# Altium schematic symbol library Custom1.SchLib: 476 symbols (part 8 of 16)
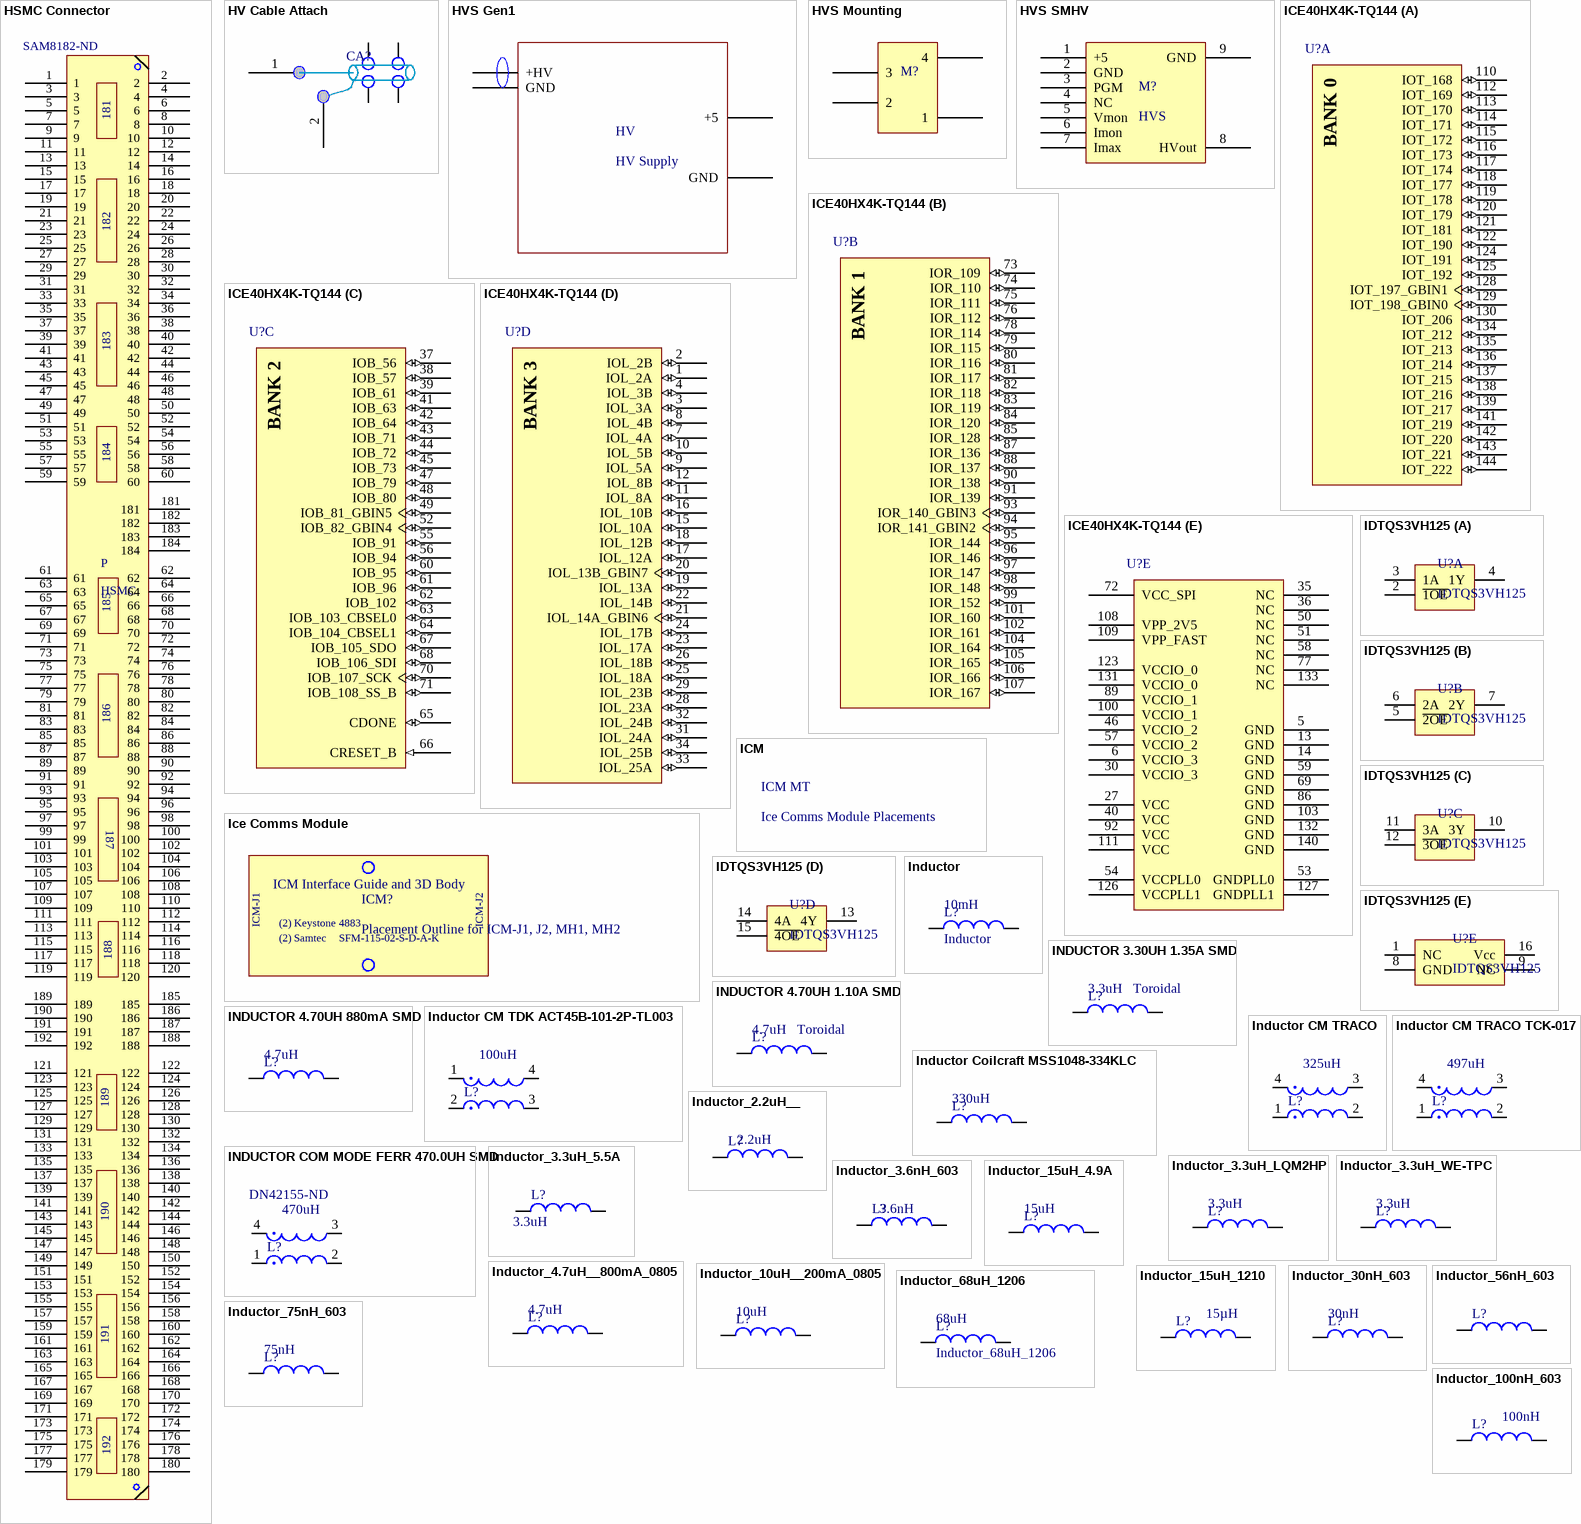
[diagram p32: symbols HSMC Connector to Inductor_100nH_603]

## Inductor CM TDK ACT45B-101-2P-TL003
designator L?  value 100uH  (hidden comment: Inductor CM TDK ACT45B-101-2P-TL003)
Manufacturer: TDK Corporation; Filter Type: Data, Signal Line; Number of Lines: 2; Inductance: 100µH; Current: 150mA; DC Resistance (DCR): 2 Ohm Max; Impedance: 5.8 kOhm; Supplier 1: Digi-Key; Manufacturer Part Number: ACT45B-101-2P-TL003; RoHS: RoHS Compliant; Category: Filters; Stock 1: 15311; Pricing 1: 1=2.25, 10=2.1, 50=1.71, 100=1.56, 500=1.32, 1000=1.23 (USD); Packaging: Cut Tape (CT); Mounting Type: Surface Mount; Size / Dimension: 0.177" L x 0.126" W (4.50mm x 3.20mm); Height (Max): 0.118" (3.00mm); Package / Case: Horizontal, 4 PC Pad; Operating Temperature: -40°C ~ 150°C; ComponentLink1URL: http://product.tdk.com/en/catalog/datasheets/e9711_act.pdf; ComponentLink1Description: http://product.tdk.com/en/catalog/datasheets/e9711_act.pdf; Supplier Part Number 1: 445-3959-1-ND
simulation model INDUCTOR (Inductor)
signal-integrity model Inductor
footprint PSI_IND_SMD_4P_4.6SP_4.5X3.2B_5.9W__V1
pins: 1, 2, 3, 4

## Inductor CM TRACO
designator L?  value 325uH  (hidden comment: Inductor CM TRACO)
TCK-050
simulation model INDUCTOR (Inductor)
signal-integrity model Inductor
footprint CM Choke TCK-050 (CM Choke TRACO TCK-050)
pins: 1, 2, 3, 4

## Inductor CM TRACO TCK-017
designator L?  value 497uH  (hidden comment: Inductor CM TRACO TCK-017)
TCK-050; Manufacturer: TRACO Power; Inductance: 497 uH; Maximum DC Resistance: 80 mOhms; Shielding: Unshielded; Tolerance: 25 %; Type: Common Mode Choke; Test Frequency: 100 kHz; Supplier 1: Mouser; Manufacturer Part Number: TCK-017; RoHS: RoHS Compliant; Category: Common Mode Filters / Chokes; Stock 1: 0; Pricing 1: 1=6.94, 10=6.24, 25=5.89, 50=5.55, 100=5.18, 250=4.98, 500=4.82, 1000=4.67, 2500=4.50 (AUD); Height: 8.8 mm; Length: 11 mm; Maximum DC Current: -; Packaging: Bulk; Product: Common Mode Chokes; Self Resonant Frequency: -; Termination Style: Through Hole; Width: 11 mm; Brand: TRACO Power; RoHS - Mouser: Y; Minimum Order Quantity: 1; Reeling: False; ComponentLink1URL: http://www.mouser.com/ds/2/687/ten8wi-application-536504.pdf; ComponentLink1Description: http://www.mouser.com/ds/2/687/ten8wi-application-536504.pdf; Supplier Part Number 1: 495-TCK-017
simulation model INDUCTOR (Inductor)
signal-integrity model Inductor
footprint CM Choke TCK-050 (CM Choke TRACO TCK-050)
pins: 1, 2, 3, 4

## Inductor Coilcraft MSS1048-334KLC
designator L?, comment value 330uH  (hidden comment: INDUCTOR 330UH  SMD)
Inductor Coilcraft MSS1048-334KLC; Manufacturer Part Number: MSS1048T-334KLB; Core Material: Ferrite; Maximum DC Current: 820 mA; Maximum DC Resistance: 749.5 mOhms; Self Resonant Frequency: 3 MHz; Shielding: Shielded; Tolerance: 10 %; Case Height: 5.1 mm; Case Length: 10.5 mm; Case Width: 10.3 mm; Test Frequency: 100 kHz; Supplier 1: Mouser; Manufacturer: Coilcraft; RoHS: RoHS Compliant; Category: Fixed Inductors; Stock 1: 172; Pricing 1: 1=2.24, 10=2.00, 15=2.00, 50=1.74, 100=1.51, 200=1.34, 500=1.22, 1000=1.13, 2000=1.09 (AUD); Inductance: 330 uH; Operating Temperature Range: - 40 C to + 125 C; Packaging: Reel; Product: Power Inductors; Series: MSS1048T; Termination Style: SMD/SMT; Brand: Coilcraft; Standard Pack Qty: 15; RoHS - Mouser: Y; Minimum Order Quantity: 1; Reeling: True; ComponentLink1URL: http://www.mouser.com/ds/2/597/mss1048t-253250.pdf; ComponentLink1Description: http://www.mouser.com/ds/2/597/mss1048t-253250.pdf; Supplier Part Number 1: 994-MSS1048T-334KLB
simulation model INDUCTOR (Inductor)
signal-integrity model Inductor
footprint IND_SMD_2P_10.2x10.2B_4.8H__V1
pins: 1, 2

## INDUCTOR COM MODE FERR 470.0UH SMD
designator L?, comment value 470uH  Supplier Part Number 1: DN42155-ND  (hidden comment: CM6350R-474)
Manufacturer: API Delevan Inc; Filter Type: Power Line; Number of Lines: 2; Inductance: 470µH; Current: 1.5A; DC Resistance (DCR): 60 mOhm Max; Supplier 1: Digi-Key; Manufacturer Part Number: CM6350R-474; RoHS: RoHS Compliant; Category: Filters; Stock 1: 1684; Pricing 1: 1=7.7, 10=6.93, 25=6.16, 50=5.236, 100=4.928, 500=4.62, 1000=4.312, 2500=4.0964 (USD); Packaging: Bulk; Impedance: -; Mounting Type: Surface Mount; Size / Dimension: 0.360" L x 0.360" W (9.14mm x 9.14mm); Height (Max): 0.210" (5.33mm); Package / Case: Horizontal, 4 PC Pad; Operating Temperature: -55°C ~ 105°C; ComponentLink1URL: http://www.delevan.com/seriesPDFs/CM6350.pdf; ComponentLink1Description: http://www.delevan.com/seriesPDFs/CM6350.pdf
simulation model INDUCTOR (Inductor)
signal-integrity model Inductor
footprint CM6350
pins: 1, 2, 3, 4

## Inductor_2.2uH__
designator L?  value 2.2uH  (hidden comment: Inductor_2.2uH__)
Inductor
footprint 0402 (Chip Capacitor; Body 1.0 x 0.5 mm (LxW typ))
footprint INDC1608L (Chip Inductor, Body 1.6x0.8mm, IPC High Density)
footprint 2029 (Chip Inductor, Body 2.0x1.2mm, IPC High Density)
footprint 0603 (Chip Inductor, Body 0.6x0.3mm, IPC High Density)
footprint INDC3216 (Chip Inductor, Body 3.2x1.6mm, IPC High Density)
footprint INDC4532 (Chip Inductor, Body 4.5x3.2mm, IPC High Density)
simulation model INDUCTOR (Inductor)
signal-integrity model Inductor
footprint 0805 (SMT; Body 2.0 x 1.2 mm (LxW typ))
pins: 1, 2

## Inductor_3.3uH_5.5A
designator L?  Inductance: 3.3uH  (hidden comment: Inductor_3.3uH_5.5A)
3.3µH Shielded Wirewound Inductor 5.5A 38.3mOhm Max Nonstandard; Manufacturer: Bourns; Manufacturer Part Number: SRP4020FA-3R3M; ComponentLink1Description: Datasheet; ComponentLink1URL: https://www.bourns.com/docs/Product-Datasheets/SRP4020FA.pdf; ComponentLink2Description: Supplier Link; ComponentLink2URL: https://www.digikey.com/products/en?keywords=SRP4020FA-3R3MCT-ND; Supplier 1: Digi-Key; Stock 1: 2984; Pricing 1: 1=1.49000, 10=1.38300, 100=0.99990, 500=0.76590, 1000=0.68080 (USD); RoHS: No; Supplier Part Number 1: SRP4020FA-3R3MCT-ND
simulation model INDUCTOR (Inductor)
signal-integrity model Inductor
footprint IND_EATON_SRP
pins: 1, 2

## Inductor_3.3uH_LQM2HP
designator L?  value 3.3uH  (hidden comment: Inductor_3.3uH_LQM2HP)
Inductor; Manufacturer: Murata Electronics North America; Manufacturer Part Number: LQM2HPN3R3MJ0L; Type: Multilayer; Inductance: 3.3µH; Tolerance: ±20%; Current Rating: 1A; Shielding: Shielded; DC Resistance (DCR): 120 mOhm; Frequency - Self Resonant: 30MHz; Frequency - Test: 1MHz; Supplier 1: Digi-Key; Supplier Part Number 1: 490-6701-1-ND; RoHS: RoHS Compliant; Category: Inductors, Coils, Chokes; Stock: 5835; Pricing: 1=0.4, 10=0.36, 25=0.3196, 50=0.2796, 100=0.2597, 250=0.23972, 500=0.22772, 750=0.20775, 1000=0.18377 (USD); Packaging: Cut Tape (CT); Material - Core: -; Current - Saturation: -; Q @ Freq: -; Operating Temperature: -55°C ~ 125°C; Mounting Type: Surface Mount; Package / Case: 1008 (2520 Metric); Size / Dimension: 0.098" L x 0.079" W (2.50mm x 2.00mm); Height - Seated (Max): 0.039" (1.00mm); Supplier Device Package: 1008 (2520 Metric); ComponentLink1URL: http://search.murata.co.jp/Ceramy/image/img/PDF/ENG/L0075S0104LQM2HP_J0.pdf; ComponentLink1Description: http://search.murata.co.jp/Ceramy/image/img/PDF/ENG/L0075S0104LQM2HP_J0.pdf
footprint 0402 (Chip Capacitor; Body 1.0 x 0.5 mm (LxW typ))
footprint INDC1608L (Chip Inductor, Body 1.6x0.8mm, IPC High Density)
footprint 2029 (Chip Inductor, Body 2.0x1.2mm, IPC High Density)
footprint 0603 (Chip Inductor, Body 0.6x0.3mm, IPC High Density)
footprint INDC3216 (Chip Inductor, Body 3.2x1.6mm, IPC High Density)
footprint INDC4532 (Chip Inductor, Body 4.5x3.2mm, IPC High Density)
simulation model INDUCTOR (Inductor)
signal-integrity model Inductor
footprint 0805 (SMT; Body 2.0 x 1.2 mm (LxW typ))
footprint IND_1008 (Footprint not found)
pins: 1, 2

## Inductor_3.3uH_WE-TPC
designator L?  value 3.3uH  (hidden comment: Inductor_3.3uH_WE-TPC)
FIXED IND 3.3UH 2.15A 35 MOHM; Manufacturer: Wurth Electronics Inc; Manufacturer Part Number: 744043003; Type: Wirewound; Material - Core: Ferrite; Inductance: 3.3µH; Tolerance: ±30%; Current - Saturation: 1.8A; Shielding: Shielded; DC Resistance (DCR): 35 mOhm Max; Frequency - Self Resonant: 80MHz; Frequency - Test: 100kHz; Supplier 1: Digi-Key; RoHS: RoHS Compliant; Category: Inductors, Coils, Chokes; Stock 1: 2200; Pricing 1: 1=1.63, 10=1.55, 50=1.4726, 100=1.3563, 250=1.27876 (USD); Packaging: Cut Tape (CT); Current Rating: 2.15A; Q @ Freq: -; Ratings: -; Operating Temperature: -40°C ~ 125°C; Mounting Type: Surface Mount; Package / Case: 1919 (4848 Metric); Size / Dimension: 0.189" L x 0.189" W (4.80mm x 4.80mm); Height - Seated (Max): 0.118" (3.00mm); ComponentLink1URL: http://katalog.we-online.de/pbs/datasheet/744043003.pdf; ComponentLink1Description: http://katalog.we-online.de/pbs/datasheet/744043003.pdf; Supplier Part Number 1: 732-1097-1-ND
simulation model INDUCTOR (Inductor)
signal-integrity model Inductor
footprint IND_WE_TPC (0.189" L x 0.189" W (4.80mm x 4.80mm))
pins: 1, 2

## Inductor_3.6nH_603
designator L?  Inductance: 3.6nH  (hidden comment: Inductor_3.6nH_603)
FIXED IND 3.6NH 700MA 63 MOHM; Manufacturer: Murata; Manufacturer Part Number: LQW18AS3N6G0ZD; Core Material: Non-Magnetic; Tolerance: 2%; Shielding: Unshielded; DC Resistance (DCR): 63mR; Self Resonant Frequency: 5.9GHz; Test Frequency: 250MHz; ComponentLink1Description: Datasheet; ComponentLink1URL: https://search.murata.co.jp/Ceramy/image/img/P02/JELF243A-9139.pdf; ComponentLink2Description: Supplier Link; ComponentLink2URL: https://www.digikey.jp/products/en?keywords=490-15826-1-ND; Supplier 1: Digi-Key; Stock 1: 4762; Pricing 1: 1 = 0.23000, 10 = 0.20700, 100 = 0.14230, 500 = 0.12162, 1000 = 0.09315 (USD); RoHS: No; Mount: Surface Mount; Case/Package: 0603; Case Code (Imperial): 0603; Case Code (Metric): 1608; Min Operating Temperature: -55°C; Max Operating Temperature: 125°C; Composition: Wirewound; Packaging: Cut Tape; Current Rating: 700mA; Ratings: AEC-Q200; Supplier Part Number 1: 490-15826-1-ND
footprint 0402 (Chip Capacitor; Body 1.0 x 0.5 mm (LxW typ))
footprint INDC1608L (Chip Inductor, Body 1.6x0.8mm, IPC High Density)
footprint 2029 (Chip Inductor, Body 2.0x1.2mm, IPC High Density)
footprint 0603 (Chip Inductor, Body 0.6x0.3mm, IPC High Density)
footprint INDC3216 (Chip Inductor, Body 3.2x1.6mm, IPC High Density)
footprint INDC4532 (Chip Inductor, Body 4.5x3.2mm, IPC High Density)
simulation model INDUCTOR (Inductor)
signal-integrity model Inductor
footprint 0805 (SMT; Body 2.0 x 1.2 mm (LxW typ))
footprint IND_0603 (Chip Inductor, Body 1.6x0.8mm, IPC Medium Density)
pins: 1, 2

## Inductor_4.7uH__800mA_0805
designator L?, comment value 4.7uH  (hidden comment: Inductor_4.7uH_800mA)
Inductor; Manufacturer: Murata Electronics North America; Manufacturer Part Number: LQM21PN4R7NGRD; Inductance: 4.7µH; Tolerance: ±30%; Current Rating: 800mA; Shielding: Shielded; DC Resistance (DCR): 288 mOhm Max; Frequency - Self Resonant: 30MHz; Frequency - Test: 1MHz; Supplier 1: Digi-Key; Supplier Part Number 1: 490-7782-1-ND; RoHS: RoHS Compliant; Category: Inductors, Coils, Chokes; Stock: 9703; Pricing: 1=0.36, 10=0.326, 25=0.2896, 50=0.2534, 100=0.2353, 250=0.2172, 500=0.20634, 750=0.18824, 1000=0.16652 (USD); Packaging: Cut Tape (CT); Type: -; Material - Core: -; Current - Saturation: -; Q @ Freq: -; Operating Temperature: -55°C ~ 125°C; Mounting Type: Surface Mount; Package / Case: 0805 (2012 Metric); Size / Dimension: 0.079" L x 0.049" W (2.00mm x 1.25mm); Height - Seated (Max): 0.039" (1.00mm); Supplier Device Package: 0805 (2012 Metric); ComponentLink1URL: http://www.murata.com/products/catalog/pdf/o05e.pdf; ComponentLink1Description: http://www.murata.com/products/catalog/pdf/o05e.pdf
footprint 0402 (Chip Capacitor; Body 1.0 x 0.5 mm (LxW typ))
footprint INDC1608L (Chip Inductor, Body 1.6x0.8mm, IPC High Density)
footprint 2029 (Chip Inductor, Body 2.0x1.2mm, IPC High Density)
footprint 0603 (Chip Inductor, Body 0.6x0.3mm, IPC High Density)
footprint INDC3216 (Chip Inductor, Body 3.2x1.6mm, IPC High Density)
footprint INDC4532 (Chip Inductor, Body 4.5x3.2mm, IPC High Density)
simulation model INDUCTOR (Inductor)
signal-integrity model Inductor
footprint 0805 (SMT; Body 2.0 x 1.2 mm (LxW typ))
pins: 1, 2

## Inductor_10uH__200mA_0805
designator L?, comment value 10uH  (hidden comment: Inductor_10uH_200mA)
Inductor; Manufacturer: TDK Corporation; Manufacturer Part Number: MLZ2012M100WT000; Type: Multilayer; Material - Core: Ferrite; Inductance: 10µH; Tolerance: ±20%; Current Rating: 350mA; Current - Saturation: 200mA; Shielding: Shielded; DC Resistance (DCR): 470 mOhm; Frequency - Self Resonant: 50MHz; Frequency - Test: 2MHz; Supplier 1: Digi-Key; Supplier Part Number 1: 445-6396-1-ND; RoHS: RoHS Compliant; Category: Inductors, Coils, Chokes; Stock: 81938; Pricing: 1=0.14, 10=0.125, 50=0.0976, 100=0.0875, 500=0.075, 1000=0.065 (USD); Packaging: Cut Tape (CT); Q @ Freq: -; Operating Temperature: -55°C ~ 125°C; Mounting Type: Surface Mount; Package / Case: 0805 (2012 Metric); Size / Dimension: 0.079" L x 0.049" W (2.00mm x 1.25mm); Height - Seated (Max): 0.057" (1.45mm); Supplier Device Package: 0805 (2012 Metric); ComponentLink1URL: http://www.tdk.co.jp/tefe02/e533_mlz.pdf; ComponentLink1Description: http://www.tdk.co.jp/tefe02/e533_mlz.pdf
footprint 0402 (Chip Capacitor; Body 1.0 x 0.5 mm (LxW typ))
footprint INDC1608L (Chip Inductor, Body 1.6x0.8mm, IPC High Density)
footprint 2029 (Chip Inductor, Body 2.0x1.2mm, IPC High Density)
footprint 0603 (Chip Inductor, Body 0.6x0.3mm, IPC High Density)
footprint INDC3216 (Chip Inductor, Body 3.2x1.6mm, IPC High Density)
footprint INDC4532 (Chip Inductor, Body 4.5x3.2mm, IPC High Density)
simulation model INDUCTOR (Inductor)
signal-integrity model Inductor
footprint 0805 (SMT; Body 2.0 x 1.2 mm (LxW typ))
pins: 1, 2

## Inductor_15uH_4.9A
designator L?  value 15uH  (hidden comment: Inductor_15uH_4.9A)
Inductor; Manufacturer: Vishay Dale; Manufacturer Part Number: IHLP3232DZER150M11; Inductance: 15µH; Current Rating: 4.9A; Current - Saturation: 3.7A; Tolerance: ±20%; Shielding: Shielded; DC Resistance (DCR): 65.3 mOhm Max; Frequency - Test: 100kHz; Supplier 1: Digi-Key; Supplier Part Number 1: 541-1347-1-ND; RoHS: RoHS Compliant; Category: Inductors, Coils, Chokes; Pricing: 1=1.74, 10=1.41, 100=1.175 (USD); Packaging: Cut Tape (CT); Type: -; Material - Core: -; Q @ Freq: -; Frequency - Self Resonant: -; Operating Temperature: -55°C ~ 125°C; Package / Case: Non Standard; Size / Dimension: 0.340" L x 0.322" W x 0.158" H (8.64mm x 8.18mm x 4.00mm); Mounting Type: Surface Mount; ComponentLink1URL: http://media.digikey.com/PDF/Data%20Sheets/Vishay%20Dale%20PDFs/IHLP-3232DZ-11.pdf; ComponentLink1Description: http://media.digikey.com/PDF/Data%20Sheets/Vishay%20Dale%20PDFs/IHLP-3232DZ-11.pdf; Stock: 480
footprint 0402 (Chip Capacitor; Body 1.0 x 0.5 mm (LxW typ))
footprint INDC1608L (Chip Inductor, Body 1.6x0.8mm, IPC High Density)
footprint 2029 (Chip Inductor, Body 2.0x1.2mm, IPC High Density)
footprint 0603 (Chip Inductor, Body 0.6x0.3mm, IPC High Density)
footprint INDC3216 (Chip Inductor, Body 3.2x1.6mm, IPC High Density)
footprint INDC4532 (Chip Inductor, Body 4.5x3.2mm, IPC High Density)
simulation model INDUCTOR (Inductor)
signal-integrity model Inductor
footprint 0805 (SMT; Body 2.0 x 1.2 mm (LxW typ))
footprint Inductor IHLP-3232DZ
pins: 1, 2

## Inductor_15uH_1210
designator L?  Inductance: 15µH  (hidden comment: Inductor_15uH_1210)
Inductor; Manufacturer: Murata Electronics North America; Manufacturer Part Number: LQH32CN150K53L; Type: Wirewound; Material - Core: Ferrite; Tolerance: ±10%; Current Rating: 300mA; Shielding: Unshielded; DC Resistance (DCR): 754 mOhm Max; Frequency - Self Resonant: 26MHz; Frequency - Test: 1MHz; Supplier 1: Digi-Key; RoHS: RoHS Compliant; Category: Inductors, Coils, Chokes; Stock 1: 13112; Pricing 1: 1=0.35, 10=0.317, 25=0.2816, 50=0.2464, 100=0.2288, 250=0.2112, 500=0.20064, 750=0.18304, 1000=0.16192 (USD); Packaging: Cut Tape (CT); Current - Saturation: -; Q @ Freq: -; Ratings: -; Operating Temperature: -40°C ~ 85°C; Mounting Type: Surface Mount; Package / Case: 1210 (3225 Metric); Size / Dimension: 0.126" L x 0.098" W (3.20mm x 2.50mm); Height - Seated (Max): 0.067" (1.70mm); ComponentLink1URL: http://search.murata.co.jp/Ceramy/image/img/PDF/ENG/L0075S0093LQH32C_53.pdf; ComponentLink1Description: http://search.murata.co.jp/Ceramy/image/img/PDF/ENG/L0075S0093LQH32C_53.pdf; Supplier Part Number 1: 490-4060-1-ND
footprint 0402 (Chip Capacitor; Body 1.0 x 0.5 mm (LxW typ))
footprint INDC1608L (Chip Inductor, Body 1.6x0.8mm, IPC High Density)
footprint 2029 (Chip Inductor, Body 2.0x1.2mm, IPC High Density)
footprint 0603 (Chip Inductor, Body 0.6x0.3mm, IPC High Density)
footprint INDC3216 (Chip Inductor, Body 3.2x1.6mm, IPC High Density)
footprint INDC4532 (Chip Inductor, Body 4.5x3.2mm, IPC High Density)
simulation model INDUCTOR (Inductor)
signal-integrity model Inductor
footprint 0805 (SMT; Body 2.0 x 1.2 mm (LxW typ))
footprint Inductor IHLP-3232DZ
footprint IND_1210 (Chip Inductor, Body 3.2x2.5mm, IPC Medium Density)
pins: 1, 2

## Inductor_30nH_603
designator L?  value 30nH  (hidden comment: Inductor_30nH_603)
30nH Ceramic Q=34; Manufacturer: Murata Electronics North America; Manufacturer Part Number: LQW18AN30NG00D; Type: Wirewound; Material - Core: Air; Tolerance: ±2%; Current Rating: 420mA; Shielding: Unshielded; DC Resistance (DCR): 230 mOhm Max; Q @ Freq: 40 @ 250MHz; Frequency - Self Resonant: 3.3GHz; Frequency - Test: 100MHz; Supplier 1: Digi-Key; Supplier Part Number 1: 490-6882-1-ND; RoHS: RoHS Compliant; Category: Inductors, Coils, Chokes; Stock: 5852; Pricing: 1=0.36, 10=0.324, 25=0.288, 50=0.252, 100=0.234, 250=0.216, 500=0.2052, 750=0.1872, 1000=0.1656 (USD); Packaging: Cut Tape (CT); Inductance: 30nH; Current - Saturation: -; Operating Temperature: -55°C ~ 125°C; Mounting Type: Surface Mount; Package / Case: 0603 (1608 Metric); Size / Dimension: 0.063" L x 0.031" W (1.60mm x 0.80mm); Height - Seated (Max): 0.039" (1.00mm); Supplier Device Package: 0603 (1608 Metric); ComponentLink1URL: http://search.murata.co.jp/Ceramy/image/img/PDF/ENG/L0075S0080LQW18A_00.pdf; ComponentLink1Description: http://search.murata.co.jp/Ceramy/image/img/PDF/ENG/L0075S0080LQW18A_00.pdf
footprint 0402 (Chip Capacitor; Body 1.0 x 0.5 mm (LxW typ))
footprint INDC1608L (Chip Inductor, Body 1.6x0.8mm, IPC High Density)
footprint 2029 (Chip Inductor, Body 2.0x1.2mm, IPC High Density)
footprint 0603 (Chip Inductor, Body 0.6x0.3mm, IPC High Density)
footprint INDC3216 (Chip Inductor, Body 3.2x1.6mm, IPC High Density)
footprint INDC4532 (Chip Inductor, Body 4.5x3.2mm, IPC High Density)
simulation model INDUCTOR (Inductor)
signal-integrity model Inductor
footprint 0805 (SMT; Body 2.0 x 1.2 mm (LxW typ))
footprint IND_0603 (Chip Inductor, Body 1.6x0.8mm, IPC Medium Density)
footprint IND_0603 (Chip Inductor, Body 1.6x0.8mm, IPC Medium Density)
pins: 1, 2

## Inductor_56nH_603
designator L?  (value not drawn)
FIXED IND 56NH 770MA 260 MOHM; Manufacturer: Murata; Manufacturer Part Number: LQW18AN56NG8ZD; Supplier 1: Digi-Key; Stock 1: 1927; Pricing 1: 1 = 0.31000, 10 = 0.27600, 100 = 0.18980, 500 = 0.16216, 1000 = 0.12420 (USD); RoHS: No; ComponentLink1Description: Datasheet; ComponentLink1URL: https://search.murata.co.jp/Ceramy/image/img/P02/JELF243A-9133.pdf; Supplier Part Number 1: 490-15718-1-ND
footprint 0402 (Chip Capacitor; Body 1.0 x 0.5 mm (LxW typ))
footprint INDC1608L (Chip Inductor, Body 1.6x0.8mm, IPC High Density)
footprint 2029 (Chip Inductor, Body 2.0x1.2mm, IPC High Density)
footprint 0603 (Chip Inductor, Body 0.6x0.3mm, IPC High Density)
footprint INDC3216 (Chip Inductor, Body 3.2x1.6mm, IPC High Density)
footprint INDC4532 (Chip Inductor, Body 4.5x3.2mm, IPC High Density)
simulation model INDUCTOR (Inductor)
signal-integrity model Inductor
footprint 0805 (SMT; Body 2.0 x 1.2 mm (LxW typ))
footprint IND_0603 (Chip Inductor, Body 1.6x0.8mm, IPC Medium Density)
pins: 1, 2

## Inductor_68uH_1206
designator L?  value 68uH
Inductor
footprint 0402 (Chip Capacitor; Body 1.0 x 0.5 mm (LxW typ))
footprint INDC1608L (Chip Inductor, Body 1.6x0.8mm, IPC High Density)
footprint 2029 (Chip Inductor, Body 2.0x1.2mm, IPC High Density)
footprint 0603 (Chip Inductor, Body 0.6x0.3mm, IPC High Density)
footprint INDC3216 (Chip Inductor, Body 3.2x1.6mm, IPC High Density)
footprint INDC4532 (Chip Inductor, Body 4.5x3.2mm, IPC High Density)
simulation model INDUCTOR (Inductor)
signal-integrity model Inductor
footprint 0805 (SMT; Body 2.0 x 1.2 mm (LxW typ))
footprint IND_1206 (Chip Inductor, Body 3.2x1.6mm, IPC Medium Density)
pins: 1, 2

## Inductor_75nH_603
designator L?  value 75nH  (hidden comment: Inductor_75nH_603)
75nH Ceramic Q=34; Manufacturer: Murata Electronics North America; Manufacturer Part Number: LQW18AN72NG00D; Type: Wirewound; Material - Core: Air; Inductance: 72nH; Tolerance: ±2%; Current Rating: 270mA; Shielding: Unshielded; DC Resistance (DCR): 560 mOhm Max; Q @ Freq: 34 @ 150MHz; Frequency - Self Resonant: 2.1GHz; Frequency - Test: 100MHz; Supplier 1: Digi-Key; Supplier Part Number 1: 490-6909-1-ND; RoHS: RoHS Compliant; Category: Inductors, Coils, Chokes; Stock: 6217; Pricing: 1=0.36, 10=0.324, 25=0.288, 50=0.252, 100=0.234, 250=0.216, 500=0.2052, 750=0.1872, 1000=0.1656 (USD); Packaging: Cut Tape (CT); Current - Saturation: -; Operating Temperature: -55°C ~ 125°C; Mounting Type: Surface Mount; Package / Case: 0603 (1608 Metric); Size / Dimension: 0.063" L x 0.031" W (1.60mm x 0.80mm); Height - Seated (Max): 0.039" (1.00mm); Supplier Device Package: 0603 (1608 Metric); ComponentLink1URL: http://search.murata.co.jp/Ceramy/image/img/PDF/ENG/L0075S0080LQW18A_00.pdf; ComponentLink1Description: http://search.murata.co.jp/Ceramy/image/img/PDF/ENG/L0075S0080LQW18A_00.pdf
footprint 0402 (Chip Capacitor; Body 1.0 x 0.5 mm (LxW typ))
footprint INDC1608L (Chip Inductor, Body 1.6x0.8mm, IPC High Density)
footprint 2029 (Chip Inductor, Body 2.0x1.2mm, IPC High Density)
footprint 0603 (Chip Inductor, Body 0.6x0.3mm, IPC High Density)
footprint INDC3216 (Chip Inductor, Body 3.2x1.6mm, IPC High Density)
footprint INDC4532 (Chip Inductor, Body 4.5x3.2mm, IPC High Density)
simulation model INDUCTOR (Inductor)
signal-integrity model Inductor
footprint 0805 (SMT; Body 2.0 x 1.2 mm (LxW typ))
footprint IND_0603 (Chip Inductor, Body 1.6x0.8mm, IPC Medium Density)
pins: 1, 2

## Inductor_100nH_603
designator L?  Inductance: 100nH  (hidden comment: Inductor_100nH_603)
100nH Ceramic Q=34; Manufacturer: Murata Electronics North America; Manufacturer Part Number: LQW18ANR10G00D; Type: Wirewound; Material - Core: Non-Magnetic; Tolerance: ±2%; Current Rating: 220mA; Shielding: Unshielded; DC Resistance (DCR): 680 mOhm Max; Q @ Freq: 34 @ 150MHz; Frequency - Self Resonant: 1.8GHz; Frequency - Test: 100MHz; Supplier 1: Digi-Key; RoHS: RoHS Compliant; Category: Inductors, Coils, Chokes; Stock 1: 26279; Pricing 1: 1=0.18, 10=0.165, 25=0.1484, 50=0.1288, 100=0.1155, 250=0.10724, 500=0.099, 750=0.09405, 1000=0.0858 (USD); Packaging: Cut Tape (CT); Current - Saturation: -; Ratings: -; Operating Temperature: -55°C ~ 125°C; Mounting Type: Surface Mount; Package / Case: 0603 (1608 Metric); Size / Dimension: 0.063" L x 0.031" W (1.60mm x 0.80mm); Height - Seated (Max): 0.039" (1.00mm); ComponentLink1URL: http://search.murata.co.jp/Ceramy/image/img/PDF/ENG/L0075S0080LQW18A_00.pdf; ComponentLink1Description: http://search.murata.co.jp/Ceramy/image/img/PDF/ENG/L0075S0080LQW18A_00.pdf; Supplier Part Number 1: 490-6918-1-ND
footprint 0402 (Chip Capacitor; Body 1.0 x 0.5 mm (LxW typ))
footprint INDC1608L (Chip Inductor, Body 1.6x0.8mm, IPC High Density)
footprint 2029 (Chip Inductor, Body 2.0x1.2mm, IPC High Density)
footprint 0603 (Chip Inductor, Body 0.6x0.3mm, IPC High Density)
footprint INDC3216 (Chip Inductor, Body 3.2x1.6mm, IPC High Density)
footprint INDC4532 (Chip Inductor, Body 4.5x3.2mm, IPC High Density)
simulation model INDUCTOR (Inductor)
signal-integrity model Inductor
footprint 0805 (SMT; Body 2.0 x 1.2 mm (LxW typ))
footprint IND_0603 (Chip Inductor, Body 1.6x0.8mm, IPC Medium Density)
pins: 1, 2

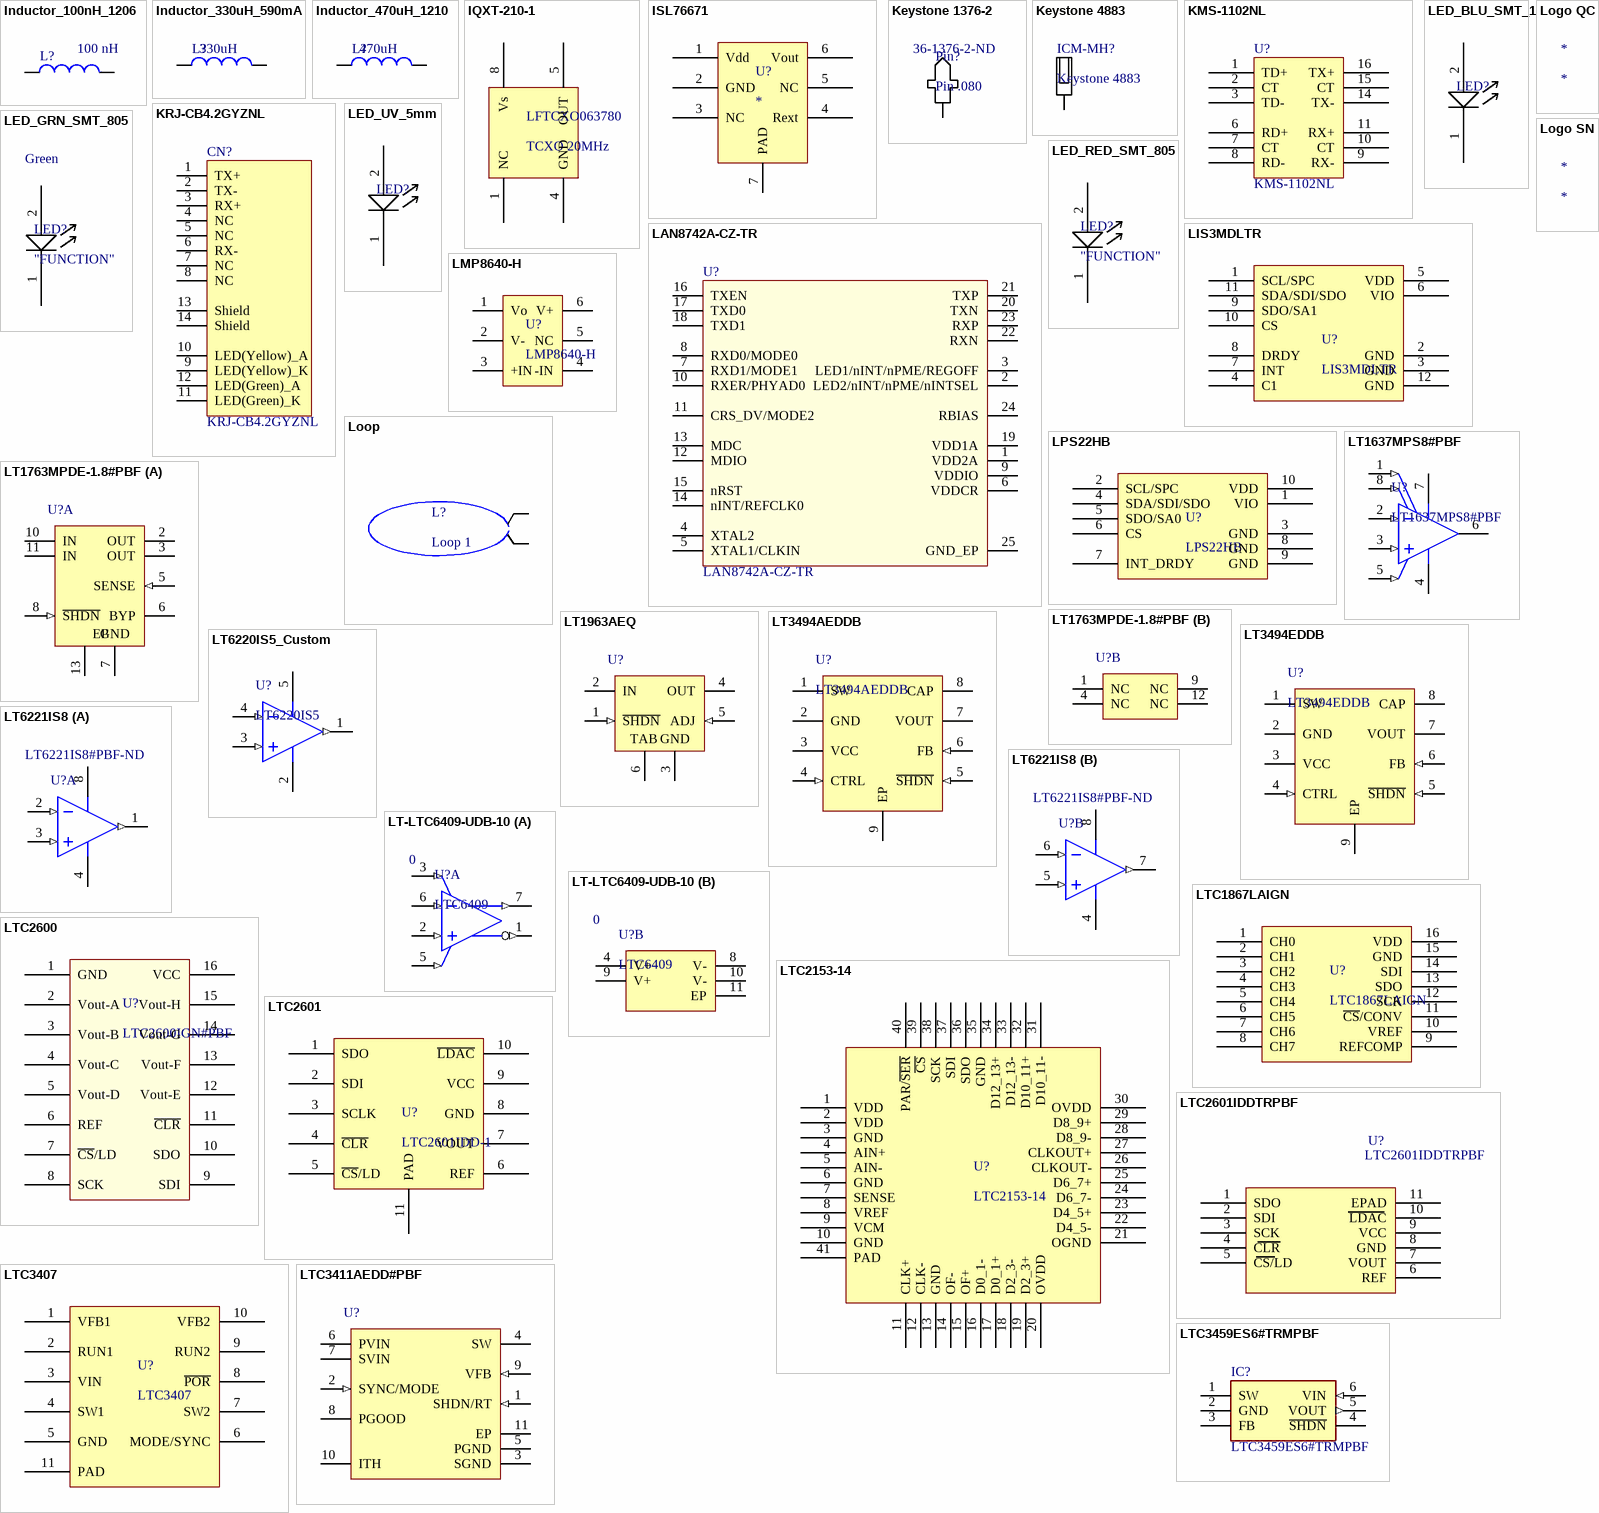
[diagram p17: symbols Inductor_100nH_1206 to LTC3459ES6#TRMPBF]

## Inductor_100nH_1206
designator L?  Inductance: 100 nH  (hidden comment: Inductor_100nH_1206)
Manufacturer: Coilcraft; Manufacturer Part Number: 1206CS-101XGLB; Core Material: Ceramic; Maximum DC Current: 850 mA; Maximum DC Resistance: 260 mOhms; Q Minimum: 55; Self Resonant Frequency: 1100 MHz; Tolerance: 2 %; Test Frequency: 100 MHz; Supplier 1: Mouser; RoHS: RoHS Compliant; Category: Fixed Inductors; Stock 1: 212; Pricing 1: 1=1.33, 10=1.19, 50=0.995, 70=0.995, 100=0.913, 200=0.863, 500=0.553, 1000=0.406, 2000=0.376 (USD); Height: 1.52 mm; Length: 3.56 mm; Operating Temperature Range: - 40 C to + 125 C; Package / Case: 1206 (3216 metric); Packaging: Reel; Product: RF Inductors; Series: 1206CS; Termination Style: SMD/SMT; Width: 2.16 mm; Brand: Coilcraft; Mounting Style: SMD/SMT; Standard Pack Qty: 70; RoHS - Mouser: Y; Minimum Order Quantity: 1; Reeling: True; ComponentLink1URL: http://www.mouser.com/ds/2/597/1206cs-270667.pdf; ComponentLink1Description: http://www.mouser.com/ds/2/597/1206cs-270667.pdf; Supplier Part Number 1: 994-1206CS-101XGLB
footprint 0402 (Chip Capacitor; Body 1.0 x 0.5 mm (LxW typ))
footprint INDC1608L (Chip Inductor, Body 1.6x0.8mm, IPC High Density)
footprint 2029 (Chip Inductor, Body 2.0x1.2mm, IPC High Density)
footprint 0603 (Chip Inductor, Body 0.6x0.3mm, IPC High Density)
footprint INDC3216 (Chip Inductor, Body 3.2x1.6mm, IPC High Density)
footprint INDC4532 (Chip Inductor, Body 4.5x3.2mm, IPC High Density)
simulation model INDUCTOR (Inductor)
signal-integrity model Inductor
footprint 0805 (SMT; Body 2.0 x 1.2 mm (LxW typ))
footprint IND_0603 (Chip Inductor, Body 1.6x0.8mm, IPC Medium Density)
footprint IND_1206 (Chip Inductor, Body 3.2x1.6mm, IPC Medium Density)
pins: 1, 2

## Inductor_330uH_590mA
designator L?  Inductance: 330uH  (hidden comment: Inductor_330uH_590mA)
Inductor; Manufacturer: TDK EPCOS; Manufacturer Part Number: B82464G4334M000; Core Material: Ferrite; Inductance Tolerance: 20%; Shielding: Shielded; RMS Current (Irms): 590mA; Saturation Current: 650mA; DC Resistance (DCR): 650mR; Current Rating: 550mA; Test Frequency: 100kHz; Supplier 1: Digi-Key; Stock 1: 1184; Pricing 1: 1 = 2.54000, 10 = 2.34600, 100 = 1.64220 (USD); RoHS: Yes; Mount: Surface Mount; Case/Package: SMD/SMT; Tolerance: 20%; Packaging: Tape and Reel; DC Current: 590mA; Military Standard: Not; Max DC Current: 590mA; Length: 10.4mm; Height: 3mm; Width: 10.4mm; Depth: 10.4mm; REACH SVHC: No SVHC; ComponentLink1URL: https://www.tdk-electronics.tdk.com/inf/30/db/ind_2008/b82464g4.pdf; ComponentLink1Description: Datasheet; ComponentLink2URL: https://www.digikey.com/products/en?keywords=495-1804-1-NDhttps://datasheet.ciiva.com/22623/1899158-22623103.pdf?src-supplier=Element14; ComponentLink2Description: Supplier Link; Supplier Part Number 1: 495-1804-1-ND
simulation model INDUCTOR (Inductor)
signal-integrity model Inductor
footprint IND_SMD_2P_10.4x10.4x4.8H
pins: 1, 2

## Inductor_470uH_1210
designator L?  value 470uH  (hidden comment: Inductor_470uH_1210)
Inductor; Manufacturer: Murata Electronics North America; Manufacturer Part Number: LQH32CN471K23L; Type: Wirewound; Material - Core: Ferrite; Inductance: 470µH; Tolerance: ±10%; Current Rating: 60mA; Shielding: Unshielded; DC Resistance (DCR): 19 Ohm; Frequency - Self Resonant: 5MHz; Frequency - Test: 1kHz; Supplier 1: Digi-Key; RoHS: RoHS Compliant; Category: Inductors, Coils, Chokes; Stock 1: 3188; Pricing 1: 1=0.32, 10=0.291, 25=0.2584, 50=0.2262, 100=0.21, 250=0.1938, 500=0.18412, 750=0.16796, 1000=0.14858 (USD); Packaging: Cut Tape (CT); Current - Saturation: -; Q @ Freq: -; Operating Temperature: -40°C ~ 85°C; Mounting Type: Surface Mount; Package / Case: 1210 (3225 Metric); Size / Dimension: 0.126" L x 0.098" W (3.20mm x 2.50mm); Height - Seated (Max): 0.067" (1.70mm); Supplier Device Package: 1210; ComponentLink1URL: http://search.murata.co.jp/Ceramy/image/img/PDF/ENG/L0075S0093LQH32C_23~33.pdf; ComponentLink1Description: http://search.murata.co.jp/Ceramy/image/img/PDF/ENG/L0075S0093LQH32C_23~33.pdf; Supplier Part Number 1: 490-2499-1-ND
footprint 0402 (Chip Capacitor; Body 1.0 x 0.5 mm (LxW typ))
footprint INDC1608L (Chip Inductor, Body 1.6x0.8mm, IPC High Density)
footprint 2029 (Chip Inductor, Body 2.0x1.2mm, IPC High Density)
footprint 0603 (Chip Inductor, Body 0.6x0.3mm, IPC High Density)
footprint INDC3216 (Chip Inductor, Body 3.2x1.6mm, IPC High Density)
footprint INDC4532 (Chip Inductor, Body 4.5x3.2mm, IPC High Density)
simulation model INDUCTOR (Inductor)
signal-integrity model Inductor
footprint 0805 (SMT; Body 2.0 x 1.2 mm (LxW typ))
footprint IND_1210 (Chip Inductor, Body 3.2x2.5mm, IPC Medium Density)
pins: 1, 2

## IQXT-210-1
designator LFTCXO063780, comment TCXO 20MHz
LFTCXO063780; Manufacturer: IQD FREQUENCY PRODUCTS; Product Range: IQXT-210 Series; Frequency Nom: 20; Frequency Stability + / -: 0.14; Supply Voltage Nom: 3.3; Oscillator Case: SMD, 5mm x 3.2; Oscillator Output Compatibility: HCMOS; Supplier 1: Newark; Manufacturer Part Number: LFTCXO063780; RoHS: YES; Stock 1: 6; Pricing 1: 1=49.64, 25=47.37, 50=46.11, 100=44.6, 250=43.09 (USD); ComponentLink1URL: http://www.farnell.com/datasheets/1841802.pdf; ComponentLink1Description: http://www.farnell.com/datasheets/1841802.pdf; Supplier Part Number 1: 87X8904
footprint IQXT-210-1 (TCXO  IQD)
pins: 1 NC, 4 GND, 5 OUT, 8 Vs

## ISL76671
designator U?
Optical Sensor Ambient 550nm Voltage 6-WDFN Exposed Pad; Manufacturer: Renesas Electronics America Inc.; Manufacturer Part Number: ISL76671AROZ-T7A; Supplier 1: Digi-Key; Stock 1: 730; Pricing 1: 1 = 6.61000, 10 = 5.97200, 100 = 4.94410, 500 = 4.30528 (USD); RoHS: yes; Number of Pins: 6; Supplier Part Number 1: ISL76671AROZ-T7ACT-ND; ComponentLink1Description: Datasheet; ComponentLink1URL: http://www.intersil.com/content/dam/Intersil/documents/isl7/isl76671.pdf
footprint 6-ODFN (6-WDFN Exposed Pad)
pins: 1 Vdd, 2 GND, 3 NC, 4 Rext, 5 NC, 6 Vout, 7 PAD

## Keystone 1376-2
designator Pin?, comment Pin .080  Supplier Part Number 1: 36-1376-2-ND
Keystone 1376-2; Manufacturer: Keystone Electronics; Insulation: Non-Insulated; Hole Diameter: 0.094inch; Flange Diameter: 0.125inch; Board Thickness: 0.062inch; Supplier 1: Digi-Key; Manufacturer Part Number: 1376-2; Stock 1: 616; Pricing 1: 1=0.75, 10=0.605, 50=0.4844, 100=0.4641, 250=0.4238, 1000=0.3408, 2500=0.3027, 5000=0.2926 (USD); Contact Plating: Gold; Contact Material: Brass; Material: Gold; Termination: PC Pin; Packaging: Bulk; Package Quantity: 100; Length: 0.405inch; Mounting Hole Diameter: 0.094inch; ComponentLink1URL: http://www.keyelco.com/pdfs/M60/M60p101.pdf; ComponentLink1Description: http://www.keyelco.com/pdfs/M60/M60p101.pdf; ComponentLink2URL: http://mail.keyelco.com/ENG._DEPT/PDF%20CAT%20NO%20Drawings/1376-2.pdf; ComponentLink2Description: http://mail.keyelco.com/ENG._DEPT/PDF%20CAT%20NO%20Drawings/1376-2.pdf
footprint Keystone 1376-2 (0.080" diameter pin 0.125" flange)
footprint Keystone 1376-Large (0.080" diameter pin 0.125" flange)
pins: 1 Post

## Keystone 4883
designator ICM-MH?
standoff, SMT, 4-40, 0.25" Long; Manufacturer: Keystone Electronics; Manufacturer Part Number: 4883; Supplier 1: Digi-Key; Stock 1: 8158; Pricing 1: 1 = 0.52000, 10 = 0.48500, 25 = 0.43640, 50 = 0.38780, 100 = 0.37170, 250 = 0.33932 (USD); Supplier Part Number 1: 36-4883CT-ND; ComponentLink1Description: 4883 Drawing; ComponentLink1URL: http://www.keyelco.com/product-pdf.cfm?p=14255
footprint Keystone 4883 solder
pins: 1 Standoff

## KMS-1102NL
designator U?
Manufacturer: Pulse Electronics; Manufacturer Part Number: H1102NL; Shielding: Unshielded; Turns Ratio: 1:1; Isolation Voltage: 1.5kV; Insertion Loss: -1.1dB; Return Loss: -11.5dB; Lead/Base Style: Gull Wing; Supplier 1: Digi-Key; Stock 1: 11772; Pricing 1: 1 = 5.220000, 10 = 4.230000, 40 = 3.420000, 80 = 3.204000, 120 = 3.060000, 280 = 2.970000, 520 = 2.880000, 1000 = 2.790000 (USD); RoHS: Yes; Mount: Surface Mount; Case/Package: Module; Number of Pins: 16; Weight: 0.098767oz; Min Operating Temperature: 0°C; Max Operating Temperature: 70°C; Packaging: Rail/Tube; Package Quantity: 40; Termination: SMD/SMT; Length: 12.7mm; Height: 6.09mm; Width: 9.53m; Height - Seated (Max): 6.22mm; Depth: 9.53mm; Radiation Hardening: No; Lead Free: Lead Free; ComponentLink1URL: http://media.digikey.com/pdf/Data%20Sheets/Pulse%20PDFs/10_100BASE-T%20Single%20Port%20SMD%20Magnetics_Rev2008.pdf?src-supplier=Digi-Key; ComponentLink1Description: http://media.digikey.com/pdf/Data%20Sheets/Pulse%20PDFs/10_100BASE-T%20Single%20Port%20SMD%20Magnetics_Rev2008.pdf?src-supplier=Digi-Key; Supplier Part Number 1: 553-1323-5-ND
footprint H1102NL Transformer
pins: 1 TD+, 2 CT, 3 TD-, 6 RD+, 7 CT, 8 RD-, 9 RX-, 10 CT, 11 RX+, 14 TX-, 15 CT, 16 TX+

## KRJ-CB4.2GYZNL
designator CN?
100 Base-TX (Fast Ethernet) SMD RJ45 single port (1x1) with LEDS Integrated Magnetics Connector; Manuf_1: HanRun; Manuf_Part_1: HR961160C; Manuf_2: Pulse Electronics Corporation; Manuf_Part_2: J3011G21DNLT; Manuf_3: K.O.D International Holding; Manuf_Part_3: RMT-119A-12F6-GY-04; Distrib: Sub Co; Order: *
footprint RJ45_KRJ-CB4_2GYZNL (RJ45  connector, right angle)
pins: 1 TX+, 2 TX-, 3 RX+, 4 NC, 5 NC, 6 RX-, 7 NC, 8 NC, 9 LED(Yellow)_K, 10 LED(Yellow)_A, 11 LED(Green)_K, 12 LED(Green)_A, 13 Shield, 14 Shield

## LAN8742A-CZ-TR
designator U?
LAN8742A-CZ-TR - Small Footprint RMII 10/100 Ethernet, Transceiver with HP Auto-MDIX and flexPWR Technology SQFN-24; Manufacturer: Microchip; Data Rate: 100Mbps; Max Supply Voltage: 3.3V; Min Supply Voltage: 1.8V; Number of Transceivers: 1; ComponentLink1Description: Supplier link; ComponentLink1URL: https://www.digikey.com/products/en?keywords=LAN8742A-CZ-TR; ComponentLink2Description: Datasheet; ComponentLink2URL: http://ww1.microchip.com/downloads/en/DeviceDoc/DS_LAN8742_00001989A.pdf; Supplier 1: Digi-Key; Manufacturer Part Number: LAN8742A-CZ-TR; Stock 1: 18064; Pricing 1: 1 = 1.24000, 25 = 1.03000, 100 = 0.93730 (USD); RoHS: Yes; Mount: Surface Mount; Case/Package: QFN; Number of Pins: 24; Min Operating Temperature: 0°C; Max Operating Temperature: 85°C; Package Quantity: 5000; Packaging: Tape and Reel; Radiation Hardening: No; ComponentLink3URL: https://datasheet.ciiva.com/29882/8742a-29882620.pdf?src-supplier=Avnet; ComponentLink3Description: https://datasheet.ciiva.com/29882/8742a-29882620.pdf?src-supplier=Avnet; Supplier Part Number 1: LAN8742A-CZ-CT-ND
footprint QFN24_4X4 (SQFN 24 Pins, Pitch 0.5mm, 4mmx4mm)
pins: 1 VDD2A, 2 LED2/nINT/nPME/nINTSEL, 3 LED1/nINT/nPME/REGOFF, 4 XTAL2, 5 XTAL1/CLKIN, 6 VDDCR, 7 RXD1/MODE1, 8 RXD0/MODE0, 9 VDDIO, 10 RXER/PHYAD0, 11 CRS_DV/MODE2, 12 MDIO, 13 MDC, 14 nINT/REFCLK0, 15 nRST, 16 TXEN, 17 TXD0, 18 TXD1, 19 VDD1A, 20 TXN, 21 TXP, 22 RXN, 23 RXP, 24 RBIAS, 25 GND_EP

## LED_BLU_SMT_1
designator LED?, comment BLUE  (value not drawn)
LED BLUE CLEAR 2PLCC SMD; Manufacturer: Dialight; Manufacturer Part Number: 5973601207F; Lens Color: Colorless; Millicandela Rating: 11.15mcd; Lens Style/Size: Round with Flat Top; Voltage - Forward (Vf) (Typ): 3.5V; Current - Test: 10mA; Viewing Angle: 120°; Wavelength - Peak: 428nm; Supplier 1: Digi-Key; RoHS: RoHS Compliant; Category: Optoelectronics; Stock 1: 4295; Pricing 1: 1=2.56, 10=2.288, 25=1.6824, 100=1.4806, 250=1.346, 500=1.17776, 1000=1.0095 (USD); Packaging: Cut Tape (CT); Color: Blue; Lens Transparency: Clear; Mounting Type: Surface Mount; Wavelength - Dominant: -; Features: -; Package / Case: 2-PLCC; Supplier Device Package: 2-PLCC; Size / Dimension: 3.20mm L x 2.80mm W; Height (Max): 1.90mm; ComponentLink1URL: http://www.dialight.com/Assets/Drawings/2D_Drawings_DrawingDetailedSpec/C16643.pdf; ComponentLink1Description: http://www.dialight.com/Assets/Drawings/2D_Drawings_DrawingDetailedSpec/C16643.pdf; Supplier Part Number 1: 350-1588-1-ND
footprint LED SMT 2PLCC
pins: 1, 2

## LED_GRN_SMT_805
designator LED?, comment "FUNCTION"  Color: Green
LED THIN 565NM GRN DIFF 0805 SMD; Manufacturer: Lumex Opto/Components Inc; Manufacturer Part Number: SML-LXT0805GW-TR; Millicandela Rating: 11mcd; Voltage - Forward (Vf) Typ: 2V; Current - Test: 20mA; Viewing Angle: 140°; Lens Type: Diffused, White; Lens Style/Size: Rectangle with Flat Top, 1.4mm x 1.25mm; Supplier 1: Digi-Key; RoHS: RoHS Compliant; Category: Optoelectronics; Stock 1: 81564; Pricing 1: 1=0.47, 10=0.35, 100=0.1855, 250=0.154, 500=0.112, 1000=0.0875 (USD); Packaging: Cut Tape (CT); Wavelength - Dominant: -; Wavelength - Peak: 565nm; Package / Case: 0805 (2012 Metric); Size / Dimension: 2.00mm L x 1.25mm W; Height: 0.80mm; Mounting Type: Surface Mount; Luminous Flux @ Current - Test: -; ComponentLink1URL: http://www.lumex.com/specs/SML-LXT0805GW-TR.pdf; ComponentLink1Description: http://www.lumex.com/specs/SML-LXT0805GW-TR.pdf; Supplier Part Number 1: 67-1553-1-ND; Color: GRN
footprint LED_0805 (Chip Resistor, Body 2.0x1.3mm, IPC Medium Density)
pins: 1, 2

## LED_RED_SMT_805
designator LED?, comment "FUNCTION"
LED THIN RED DIFF 0805 SMD
footprint LED_0805 (Chip Resistor, Body 2.0x1.3mm, IPC Medium Density)
pins: 1, 2

## LED_UV_5mm
designator LED?  (value not drawn)
LED UV Clear Lens
footprint LED_5mm_BOT (LED for PDOM CAL BRD TOP)
footprint LED_5mm_TOP (LED for PDOM CAL BRD TOP)
pins: 1, 2

## LIS3MDLTR
designator U?
Magnetoresistive Sensor X, Y, Z Axis 12-LGA (2x2); Manufacturer: STMicroelectronics; Max Supply Voltage: 3.6V; Min Supply Voltage: 1.9V; Max Supply Current: 270uA; Resolution: 16b; Output Type: SPI; Axis: X, Y, Z; ComponentLink1Description: Datasheet; ComponentLink1URL: https://www.st.com/content/ccc/resource/technical/document/datasheet/54/2a/85/76/e3/97/42/18/DM00075867.pdf/files/DM00075867.pdf/jcr:content/translations/en.DM00075867.pdf; Supplier 1: Digi-Key; Manufacturer Part Number: LIS3MDLTR; Stock 1: 20171; Pricing 1: 1 = 1.67000, 10 = 1.49800, 100 = 1.20450, 500 = 0.98958, 1000 = 0.81993 (USD); RoHS: Yes; Mount: Surface Mount; Case/Package: LGA; Number of Pins: 12; Contact Plating: Gold; Min Operating Temperature: -40°C; Max Operating Temperature: 85°C; Packaging: Tape and Reel; Package Quantity: 8000; Sensing Method: Magnetoresistive; Radiation Hardening: No; REACH SVHC: No SVHC; Lead Free: Lead Free; Supplier Part Number 1: 497-13892-1-ND; ComponentLink2Description: Footprint data; ComponentLink2URL: http://mydiscuz.b0.upaiyun.com/forum/201602/17/145811me52roaer17ott71.attach?_upd=LSM303AGR_Footprint.pdf
footprint VFLGA-12 (2.0 x 2.0 x 0.76 mm typ.))
pins: 1 SCL/SPC, 2 GND, 3 GND, 4 C1, 5 VDD, 6 VIO, 7 INT, 8 DRDY, 9 SDO/SA1, 10 CS, 11 SDA/SDI/SDO, 12 GND

## LMP8640-H
designator U?
IC OPAMP CURR SENSE 6SOT; Manufacturer: Texas Instruments; Manufacturer Part Number: LMP8640MK-H/NOPB; Amplifier Type: Current Sense; Number of Circuits: 1; Slew Rate: 1.8 V/µs; Gain Bandwidth Product: 230kHz; Current - Input Bias: 13µA; Voltage - Input Offset: 900µV; Current - Supply: 2.3mA; Voltage - Supply, Single/Dual (±): 2.7 V ~ 12 V; Supplier 1: Digi-Key; RoHS: RoHS Compliant; Category: Integrated Circuits (ICs); Stock 1: 2524; Pricing 1: 1=2.44, 10=2.203, 25=1.9736, 100=1.7748, 250=1.57592, 500=1.377, 750=1.24695, 1000=0.95625 (USD); Packaging: Cut Tape (CT); Output Type: -; -3db Bandwidth: -; Current - Output / Channel: -; Operating Temperature: -40°C ~ 125°C; Mounting Type: Surface Mount; Package / Case: SOT-23-6 Thin, TSOT-23-6; Supplier Device Package: 6-SOT; ComponentLink1URL: http://www.ti.com/lit/ds/symlink/lmp8640.pdf; ComponentLink1Description: http://www.ti.com/lit/ds/symlink/lmp8640.pdf; Supplier Part Number 1: LMP8640MK-H/NOPBCT-ND
footprint SOT-6 TI-DDC (SOT-23, 6-Leads, Body 2.90x1.60mm, Pitch 0.95mm)
pins: 1 Vo, 2 V-, 3 +IN, 4 -IN, 5 NC, 6 V+

## Logo QC
designator *
footprint LOGO-QC blank

## Logo SN
designator *
footprint LOGO-SN blank

## Loop
designator L?, comment Loop 1
Loop 1T
pins: 17, 17

## LPS22HB
designator U?
MEMS NANO PRESSURE SENSOR: 260-1; Manufacturer: STMicroelectronics; Manufacturer Part Number: LPS22HBTR; Operating Pressure: 18.27PSI; Port Style: No Port; Max Pressure: 290.08PSI; Output Type: SPI; Pressure Type: Absolute; Supplier 1: Digi-Key; Stock 1: 16440; Pricing 1: 1 = 3.28000, 10 = 2.94200, 100 = 2.41020 (USD); RoHS: Yes; Case/Package: LGA; Number of Pins: 10; Min Operating Temperature: -40°C; Max Operating Temperature: 85°C; Termination: SMD/SMT; Packaging: Cut Tape; Lead Free: Lead Free; ComponentLink2URL: http://www.st.com/content/ccc/resource/technical/document/datasheet/bf/c1/4f/23/61/17/44/8a/DM00140895.pdf/files/DM00140895.pdf/jcr:content/translations/en.DM00140895.pdf?src-supplier=Digi-Key; ComponentLink2Description: http://www.st.com/content/ccc/resource/technical/document/datasheet/bf/c1/4f/23/61/17/44/8a/DM00140895.pdf/files/DM00140895.pdf/jcr:content/translations/en.DM00140895.pdf?src-supplier=Digi-Key; Supplier Part Number 1: 497-16265-1-ND
footprint HLGA-10L (2.0 x 2.0 x 0.76 mm typ.))
pins: 1 VIO, 2 SCL/SPC, 3 GND, 4 SDA/SDI/SDO, 5 SDO/SA0, 6 CS, 7 INT_DRDY, 8 GND, 9 GND, 10 VDD

## LT1637MPS8#PBF
designator U?
Single Channel, High Voltage, Micropower Rail-to-Rail Operational Amplifier, 1 MHz Typical GBW, 0.35 V/us Typical SR, 1.8 to 44 V, 8-Pin SOIC (S8-8), Military Plastic, Pb-Free; Manufacturer: Linear Technology; Amplifier Type: General Purpose; Number of Circuits: 1; Slew Rate: 0.4 V/µs; Gain Bandwidth Product: 1.1MHz; Current - Input Bias: 17nA; Voltage - Input Offset: 100µV; Current - Supply: 230µA; Current - Output / Channel: 31.7mA; Voltage - Supply, Single/Dual (±): 2.7 V ~ 44 V, ±1.35 V ~ 22 V; Supplier 1: Digi-Key; Manufacturer Part Number: LT1637MPS8#PBF; RoHS: RoHS Compliant; Category: Integrated Circuits (ICs); Stock 1: 99; Pricing 1: 1=8.87, 25=6.47, 100=5.29 (USD); Packaging: Tube; Output Type: Rail-to-Rail; -3db Bandwidth: -; Operating Temperature: -55°C ~ 125°C; Mounting Type: Surface Mount; Package / Case: 8-SOIC (0.154", 3.90mm Width); Supplier Device Package: 8-SO; ComponentLink1URL: http://www.linear.com/docs/1812; ComponentLink1Description: http://www.linear.com/docs/1812; Supplier Part Number 1: LT1637MPS8#PBF-ND
footprint LT-S8-8_N (SOIC, 8-Leads, Body 4.9x3.9mm, Pitch 1.27mm, IPC Medium Density)
footprint LT-S8-8_N (SOIC, 8-Leads, Body 4.9x3.9mm, Pitch 1.27mm, IPC Medium Density)
pins: 1 NULL (in), 2 -IN (in), 3 +IN (in), 4 V- (power), 5 SHDN (in), 6 OUT (hiz), 7 V+ (power), 8 NULL (in)

## LT1763MPDE-1.8#PBF
designator U?
500 mA, Low Noise, LDO Micropower Regulator, 1.8 to 20 V Vin, 1.8 V Vout, 12-pin SON (DE-UE-12), -55 to 125 degC, Pb-Free; Manufacturer: Linear Technology; PartNumber: LT1763MPDE-1.8#PBF; Discrete Pass Element: no; Dropout Voltage(V): 0.3; Iout(mA): 500; Isupply(mA): 0.03; Noise(uV): 20; Number of Outputs: 1; Output Voltage: 1.8 V; PSRR(dB): 65; Vin Min(V): 1.8; DatasheetVersion: Rev. G; PackageVersion: Rev. D, 06/2010; PackageReference: DE-UE-12; PackageDescription: 12-Pin Plastic DFN, Body 4 x 3 mm, Pitch 0.5 mm; Supplier 1: Digi-Key; Supplier Part Number 1: LT1763MPDE-1.8#PBF-ND; Supplier 2: Farnell; Supplier Part Number 2: 2295215; Supplier 3: Newark; Supplier Part Number 3: 78R8413; RoHS: TRUE; Shutdown Current(uA): 1; Vin Max(V): 20; Mounting Technology: Surface Mount; Code_JEDEC: MO-229; ComponentLink1Description: Manufacturer URL; ComponentLink1URL: http://www.linear.com/; ComponentLink2Description: Datasheet; ComponentLink2URL: http://cds.linear.com/docs/en/datasheet/1763fg.pdf; ComponentLink3Description: Package Specification; ComponentLink3URL: http://cds.linear.com/docs/en/packaging/DFN_12_05-08-1695.pdf
footprint LT-DE-UE-12_V (SON, 12-Leads, Body 4x3mm, Pitch 0.5mm, Thermal Pad 3.3x1.7mm)
part A pins: 2 OUT (power) "Output. The output supplies power to the load. A minimum output capacitor of 3.3uF is required to prevent oscillations. Larger output capacitors will be required for applications with large transient loads to limit peak (See Datasheet)", 3 OUT (power) "Output. The output supplies power to the load. A minimum output capacitor of 3.3uF is required to prevent oscillations. Larger output capacitors will be required for applications with large transient loads to limit peak (See Datasheet)", 5 SENSE (in) "Output Sense. For ?xed voltage versions of the LT1763 (LT1763-1.5/LT1763-1.8/ LT1763-2.5/LT1763-3/LT1763-3.3/LT1763-5), the SENSE pin is the input to the error amplifier. Optimum regulation will be obtained at the po(See Datasheet)", 6 BYP "Bypass. The BYP pin is used to bypass  the reference of the LT1763 regulators to achieve low noise  performance from the regulator. The BYP pin is clamped  internally to +/-0.6V (one VBE). A small capacitor from the  output (See Datasheet)", 7 GND (power) "Ground. The exposed pad of the DFN package is an electrical connection to GND. To ensure proper electrical and thermal  performance, solder Pin 13 to the PCB ground and tie  directly to Pin 7. Connect the bottom of the (See Datasheet)", 8 ~{SHDN} (in) "Shutdown. The S\H\D\N\ pin is used  to put the LT1763 regulators into a low power shutdown state. The output will be off when the S\H\D\N\ pin is pulled low. The S\H\D\N\ pin can be driven either by 5V logic or (See Datasheet)", 10 IN (power) "Input. Power is supplied to the device through the IN pin. A bypass capacitor is required on this  pin if the device is more than six inches away from the  main input filter capacitor. In general, the output impedance of (See Datasheet)", 11 IN (power) "Input. Power is supplied to the device through the IN pin. A bypass capacitor is required on this  pin if the device is more than six inches away from the  main input filter capacitor. In general, the output impedance of (See Datasheet)", 13 EP (power) "Ground. The exposed pad of the DFN package is an electrical connection to GND. To ensure proper electrical and thermal performance, solder Pin 13 to the PCB ground and tie  directly to Pin 7. Connect the bottom of the output (See Datasheet)"
part B pins: 1 NC "No Connect. No connect  pins have no connection to any internal circuitry. These pins may be tied to either GND or VIN, or left floating.", 4 NC "No Connect. No connect  pins have no connection to any internal circuitry. These pins may be tied to either GND or VIN, or left floating.", 9 NC "No Connect. No connect  pins have no connection to any internal circuitry. These pins may be tied to either GND or VIN, or left floating.", 12 NC "No Connect. No connect  pins have no connection to any internal circuitry. These pins may be tied to either GND or VIN, or left ?oating."

## LT1963AEQ
designator U?
1.5 A, Low Noise, Fast Transient Response LDO Regulator, 2.1 to 20 V Vin, Adjustable Vout, 5-pin DPAK (Q-5), -40 to 125 degC; Manufacturer: Linear Technology; PartNumber: LT1963AEQ; Discrete Pass Element: no; Dropout Voltage(V): 0.34; Iout(mA): 1500; Isupply(mA): 1; Noise(uV): 40; Output Voltage: Adj; PSRR(dB): 63; Shutdown Current(uA): 0.01; Vin Max(V): 20; Vin Min(V): 2.1; Vout Min(V): 1.21; DatasheetVersion: Rev. E; PackageVersion: Rev. F, 09/2011; PackageReference: Q-5; PackageDescription: 5-Pin Plastic DD Pak, Body 10.2235 x 8.89 mm, Pitch 1.702 mm; Supplier 1: Digi-Key; Supplier Part Number 1: LT1963AEQ-ND; Supplier 2: Newark; Supplier Part Number 2: 57M7427; Number of Outputs: 1; RoHS: FALSE; Vout Max(V): 20; Mounting Technology: Surface Mount; ComponentLink1Description: Manufacturer URL; ComponentLink1URL: http://www.linear.com/; ComponentLink2Description: Datasheet; ComponentLink2URL: http://cds.linear.com/docs/en/datasheet/1963afe.pdf; ComponentLink3Description: Package Specification; ComponentLink3URL: http://cds.linear.com/docs/en/packaging/Q%20DD5%2005-08-1461%20Rev%20F.pdf
footprint LT-Q-5_N (DPAK, 5-Leads, Body 10.22x8.89mm, Pitch 1.702mm, IPC Medium Density)
footprint LT-Q-5_L (DPAK, 5-Leads, Body 10.22x8.89mm, Pitch 1.702mm, IPC High Density)
footprint LT-Q-5_M (DPAK, 5-Leads, Body 10.22x8.89mm, Pitch 1.702mm, IPC Low Density)
footprint LT-Q-5_N (DPAK, 5-Leads, Body 10.22x8.89mm, Pitch 1.702mm, IPC Medium Density)
pins: 1 ~{SHDN} (in) "Shutdown", 2 IN (power) "Input", 3 GND (power) "Ground", 4 OUT (power) "Output", 5 ADJ (in) "Adjust", 6 TAB (power) "Ground"